# Altium integrated library NetTie.IntLib: 1 symbol
Pins are listed as number, name and electrical type; pins without a type are passive.

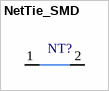
[diagram p0: symbol NetTie_SMD]

## NetTie_SMD
designator NT?, comment NT  (value not drawn)  (net tie, no BOM)
Net Tie
footprint NETTIE_SMD (Net Tie)
pins: 1, 2